# EAGLE library part MCP23017T-E/SO (library GROUND-STATION-POWER-BOARD)
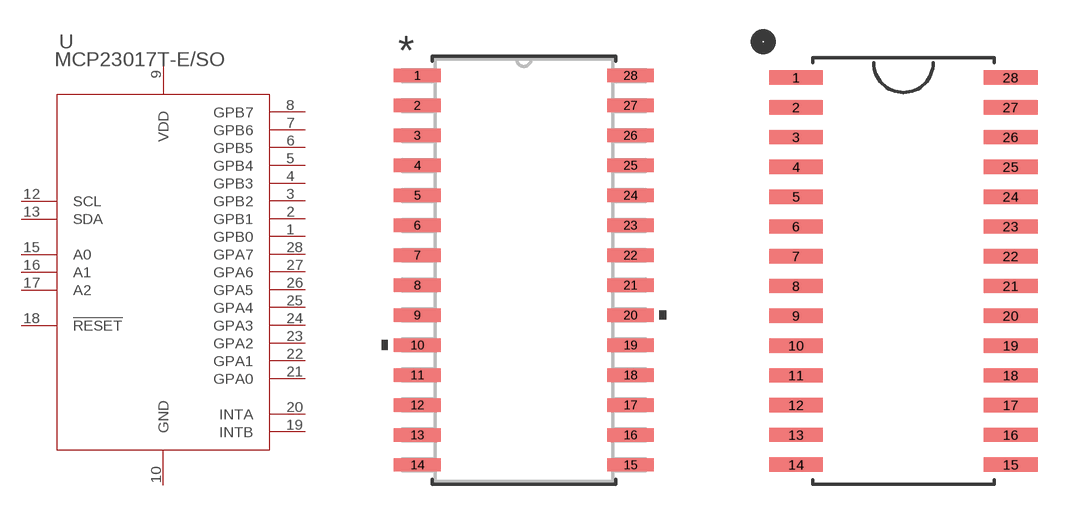
[diagram p1: symbol with the pads of SOIC28-W_MC; footprints SOIC28-W_MC, SOIC28-W_MC-M]

Designator prefix U

## MCP23017T-E/SO (MANUFACTURER_PART_NUMBER: MCP23017TESO; VENDOR: Microchip)  [SOIC28-W_MC]
1  GPB0  pas
2  GPB1  pas
3  GPB2  pas
4  GPB3  pas
5  GPB4  pas
6  GPB5  pas
7  GPB6  pas
8  GPB7  pas
9  VDD  pas
10  GND  pas
12  SCL  pas
13  SDA  pas
15  A0  pas
16  A1  pas
17  A2  pas
18  !RESET  pas
19  INTB  pas
20  INTA  pas
21  GPA0  pas
22  GPA1  pas
23  GPA2  pas
24  GPA3  pas
25  GPA4  pas
26  GPA5  pas
27  GPA6  pas
28  GPA7  pas

## MCP23017T-E/SOSOIC28-W_MC-M (MANUFACTURER_PART_NUMBER: MCP23017TESO; VENDOR: Microchip)  [SOIC28-W_MC-M]
Pads as for SOIC28-W_MC

## MCP23017T-E/SOSOIC28-W_MC-L (MANUFACTURER_PART_NUMBER: MCP23017TESO; VENDOR: Microchip)  [SOIC28-W_MC-L]
Pads as for SOIC28-W_MC

## MCP23017T-E/SOQFN  [QFN28_6X6MC-M]
1  GPB4  pas
2  GPB5  pas
3  GPB6  pas
4  GPB7  pas
5  VDD  pas
6  GND  pas
8  SCL  pas
9  SDA  pas
11  A0  pas
12  A1  pas
13  A2  pas
14  !RESET  pas
15  INTB  pas
16  INTA  pas
17  GPA0  pas
18  GPA1  pas
19  GPA2  pas
20  GPA3  pas
21  GPA4  pas
22  GPA5  pas
23  GPA6  pas
24  GPA7  pas
25  GPB0  pas
26  GPB1  pas
27  GPB2  pas
28  GPB3  pas
29  GND  pas

## Footprint SOIC28-W_MC (pad centres in mm)
smd 1.981 x 0.559: 1 -4.515,8.255; 2 -4.515,6.985; 3 -4.515,5.715; 4 -4.515,4.445; 5 -4.515,3.175; 6 -4.515,1.905; 7 -4.515,0.635; 8 -4.515,-0.635; 9 -4.515,-1.905; 10 -4.515,-3.175; 11 -4.515,-4.445; 12 -4.515,-5.715; 13 -4.515,-6.985; 14 -4.515,-8.255; 15 4.515,-8.255; 16 4.515,-6.985; 17 4.515,-5.715; 18 4.515,-4.445; 19 4.515,-3.175; 20 4.515,-1.905; 21 4.515,-0.635; 22 4.515,0.635; 23 4.515,1.905; 24 4.515,3.175; 25 4.515,4.445; 26 4.515,5.715; 27 4.515,6.985; 28 4.515,8.255

## Footprint SOIC28-W_MC-M (pad centres in mm)
smd 2.286 x 0.61: 1 -4.572,8.255; 2 -4.572,6.985; 3 -4.572,5.715; 4 -4.572,4.445; 5 -4.572,3.175; 6 -4.572,1.905; 7 -4.572,0.635; 8 -4.572,-0.635; 9 -4.572,-1.905; 10 -4.572,-3.175; 11 -4.572,-4.445; 12 -4.572,-5.715; 13 -4.572,-6.985; 14 -4.572,-8.255; 15 4.572,-8.255; 16 4.572,-6.985; 17 4.572,-5.715; 18 4.572,-4.445; 19 4.572,-3.175; 20 4.572,-1.905; 21 4.572,-0.635; 22 4.572,0.635; 23 4.572,1.905; 24 4.572,3.175; 25 4.572,4.445; 26 4.572,5.715; 27 4.572,6.985; 28 4.572,8.255

## Footprint SOIC28-W_MC-L (pad centres in mm)
smd 1.676 x 0.508: 1 -4.47,8.255; 2 -4.47,6.985; 3 -4.47,5.715; 4 -4.47,4.445; 5 -4.47,3.175; 6 -4.47,1.905; 7 -4.47,0.635; 8 -4.47,-0.635; 9 -4.47,-1.905; 10 -4.47,-3.175; 11 -4.47,-4.445; 12 -4.47,-5.715; 13 -4.47,-6.985; 14 -4.47,-8.255; 15 4.47,-8.255; 16 4.47,-6.985; 17 4.47,-5.715; 18 4.47,-4.445; 19 4.47,-3.175; 20 4.47,-1.905; 21 4.47,-0.635; 22 4.47,0.635; 23 4.47,1.905; 24 4.47,3.175; 25 4.47,4.445; 26 4.47,5.715; 27 4.47,6.985; 28 4.47,8.255

## Footprint QFN28_6X6MC-M (pad centres in mm)
smd 1.118 x 0.356: 1 -2.845,1.95; 2 -2.845,1.3; 3 -2.845,0.65; 4 -2.845,0; 5 -2.845,-0.65; 6 -2.845,-1.3; 7 -2.845,-1.95; 15 2.845,-1.95; 16 2.845,-1.3; 17 2.845,-0.65; 18 2.845,0; 19 2.845,0.65; 20 2.845,1.3; 21 2.845,1.95
smd 0.356 x 1.118: 8 -1.95,-2.845; 9 -1.3,-2.845; 10 -0.65,-2.845; 11 0,-2.845; 12 0.65,-2.845; 13 1.3,-2.845; 14 1.95,-2.845; 22 1.95,2.845; 23 1.3,2.845; 24 0.65,2.845; 25 0,2.845; 26 -0.65,2.845; 27 -1.3,2.845; 28 -1.95,2.845
smd 3.937 x 3.937: 29 0,0